# Altium schematic symbol library IC-I2C.SchLib: 21 symbols
Pins are listed as number, name and electrical type; pins without a type are passive.

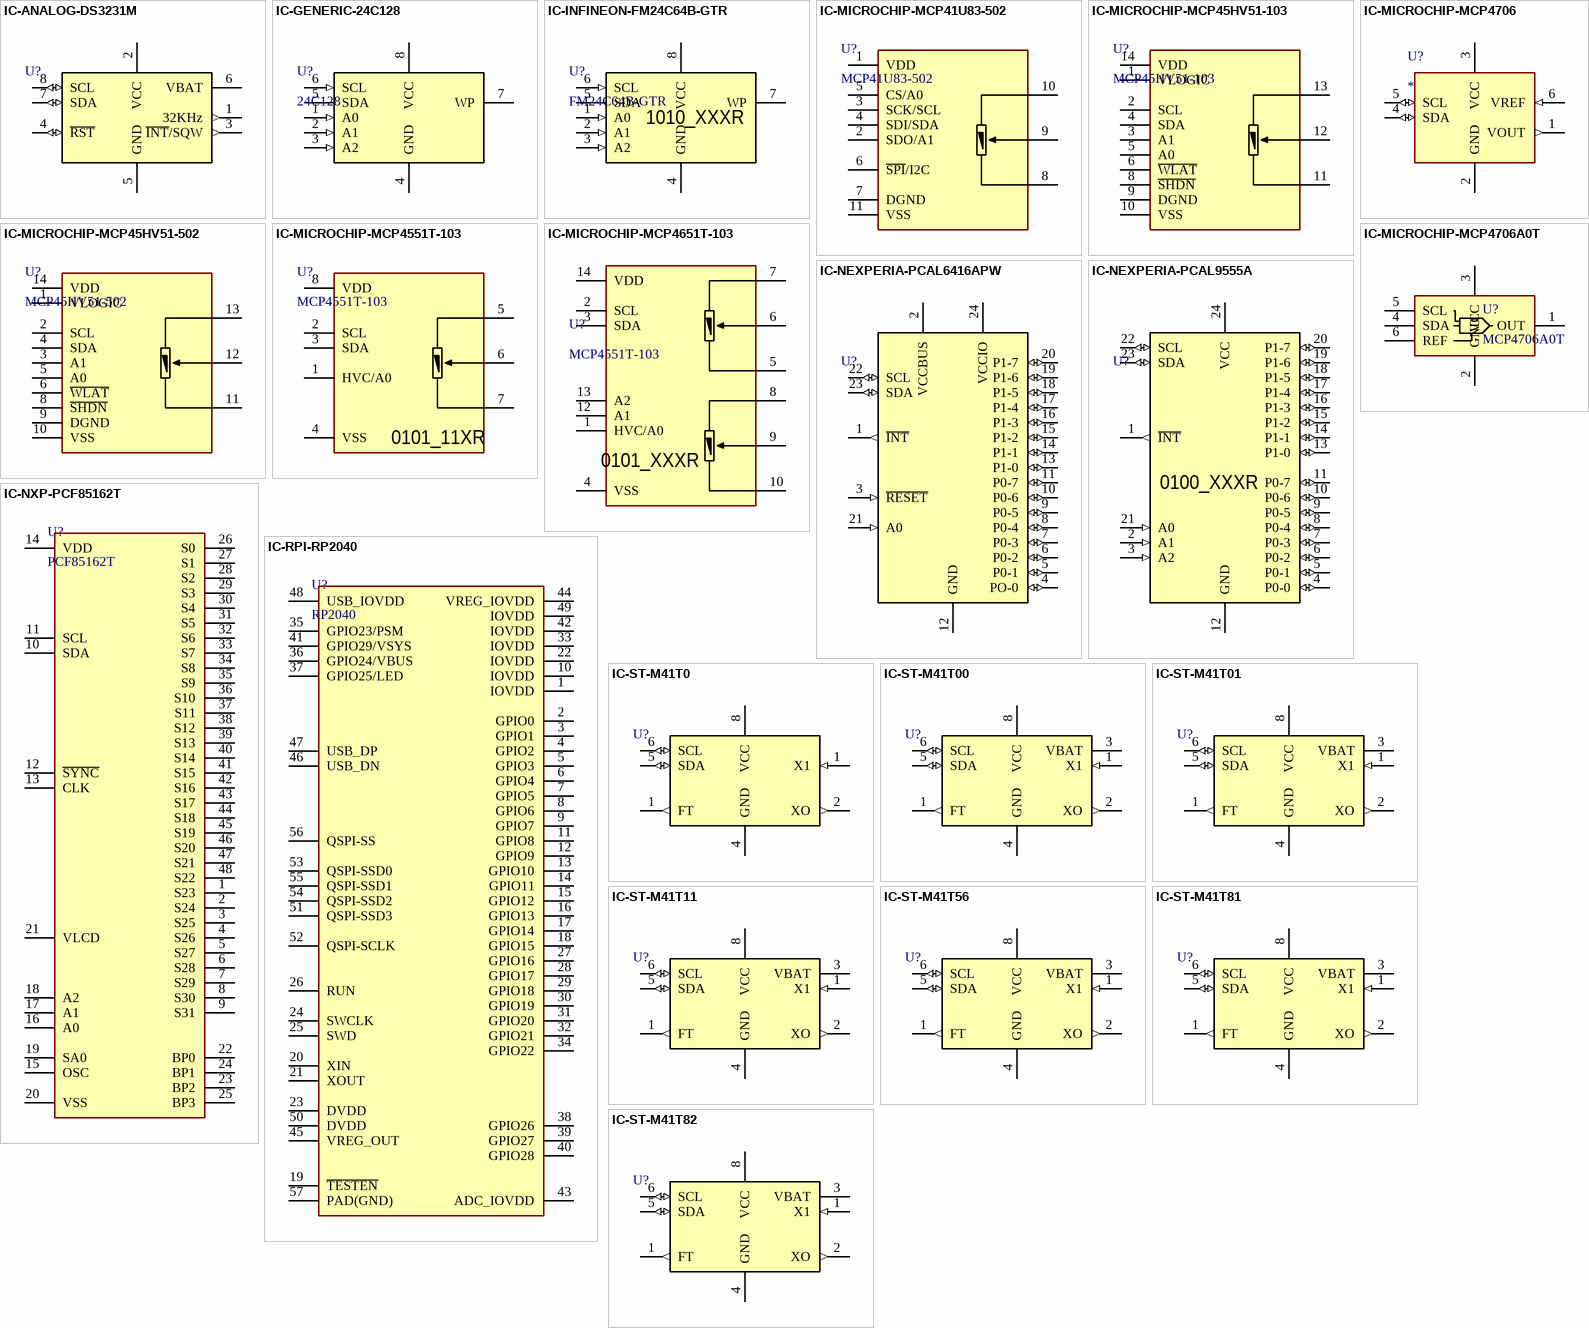
[diagram p0: symbols IC-ANALOG-DS3231M to IC-ST-M41T82]

## IC-ANALOG-DS3231M
designator U?  (value not drawn)
IC,I2C,RTC,DS3231M; Supplier 1: Mouser; Supplier Part Number 1: 700-DS3231MZ+TRL; LCSC: C107410
footprint SO127P600-8N (SO8)
pins: 1 32KHz (out), 2 VCC, 3 ~{INT}/SQW (out), 4 ~{RST} (io), 5 GND (power), 6 VBAT, 7 SDA (io), 8 SCL (io)

## IC-GENERIC-24C128
designator U?, comment 24C128
IC,I2C,EEPROM,128KBIT; Supplier 1: Arrow Electronics; Supplier Part Number 1: AT24C128C-SSHM-T; LCSC: C6478
footprint SO127P600-8N (SO8)
pins: 1 A0 (in), 2 A1 (in), 3 A2 (in), 4 GND (power), 5 SDA (oc), 6 SCL (in), 7 WP, 8 VCC

## IC-INFINEON-FM24C64B-GTR
designator U?, comment FM24C64B-GTR
IC,I2C,FRAM,64KBIT; LCSC: C914923; Supplier 1: Arrow Electronics; Supplier Part Number 1: FM24C64B-GTR
footprint SO127P600-8N (SO8)
pins: 1 A0 (in), 2 A1 (in), 3 A2 (in), 4 GND (power), 5 SDA (oc), 6 SCL (in), 7 WP, 8 VCC
text: 1010_XXXR

## IC-MICROCHIP-MCP41U83-502
designator U?, comment MCP41U83-502
IC,I2C,DIGITAL POTMETER,1024STEP,5K,MICROCHIP,MCP41U83-502
pins: 1 VDD, 2 SDO/A1, 3 SCK/SCL, 4 SDI/SDA, 5 CS/A0, 6 ~{SPI}/I2C, 7 DGND, 8 POB, 9 OW, 10 POA, 11 VSS

## IC-MICROCHIP-MCP45HV51-103
designator U?, comment MCP45HV51-103
IC,I2C,DIGITAL POTMETER,256STEP,10K,MICROCHIP,MCP45HV51-103
pins: 1 VLOGIC, 2 SCL, 3 A1, 4 SDA, 5 A0, 6 ~{WLAT}, 8 ~{SHDN}, 9 DGND, 10 VSS, 11 POB, 12 OW, 13 POA, 14 VDD

## IC-MICROCHIP-MCP45HV51-502
designator U?, comment MCP45HV51-502
IC,I2C,DIGITAL POTMETER,256STEP,5K,MICROCHIP,MCP45HV51-502
pins: 1 VLOGIC, 2 SCL, 3 A1, 4 SDA, 5 A0, 6 ~{WLAT}, 8 ~{SHDN}, 9 DGND, 10 VSS, 11 POB, 12 OW, 13 POA, 14 VDD

## IC-MICROCHIP-MCP4551T-103
designator U?, comment MCP4551T-103
IC,I2C,DIGITAL POTMETER,257STEP,10K,MICROCHIP,MCP4551T-103; Manufacturer Part Number 1: MCP4551T-103E/MS; LCSC: C627285; DIGIKEY: MCP4551T-103E/MSCT-ND; Manufacturer 1: MICROCHIP
footprint SO65P490-8N (MSOP8, 0.65MM PITCH, 4.90MM SPAN, 1.15MM HEIGHT)
pins: 1 HVC/A0, 2 SCL, 3 SDA, 4 VSS, 5 POA, 6 OW, 7 POB, 8 VDD
text: 0101_11XR

## IC-MICROCHIP-MCP4651T-103
designator U?, comment MCP4551T-103
IC,I2C,DIGITAL POTMETER,257STEP,10K,MICROCHIP,MCP4551T-103; Manufacturer Part Number 1: MCP4551T-103E/MS; LCSC: C627285; Manufacturer 1: MICROCHIP
pins: 1 HVC/A0, 2 SCL, 3 SDA, 4 VSS, 5 POA, 6 OW, 7 POB, 8 POA, 9 OW, 10 POB, 12 A1, 13 A2, 14 VDD
text: 0101_XXXR

## IC-MICROCHIP-MCP4706
designator U?
IC,I2C,DAC
pins: 1 VOUT (out), 2 GND, 3 VCC, 4 SDA (io), 5 SCL (io), 6 VREF (in)

## IC-MICROCHIP-MCP4706A0T
designator U?, comment MCP4706A0T
IC,I2C,DAC,8BIT; Manufacturer 1: MICROCHIP; Manufacturer Part Number 1: MCP4706A0T-E/CH; LCSC: C2649360
footprint sot23-6 (SOT23 PACKAGE, 6 PIN (SOT26))
pins: 1 OUT, 2 GND, 3 VCC, 4 SDA, 5 SCL, 6 REF

## IC-NEXPERIA-PCAL6416APW
designator U?, comment PCAL6416APW  (value not drawn)
IC,I2C,16BIT AGILE, LEVEL SHIFTING I/O EXPANDER; Supplier 1: Arrow Electronics; Supplier Part Number 1: PCAL6416APW,118
pins: 1 ~{INT} (out), 2 VCCBUS (power), 3 ~{RESET} (in), 4 PO-0 (io), 5 P0-1 (io), 6 P0-2 (io), 7 P0-3 (io), 8 P0-4 (io), 9 P0-5 (io), 10 P0-6 (io), 11 P0-7 (io), 12 GND (power), 13 P1-0 (io), 14 P1-1 (io), 15 P1-2 (io), 16 P1-3 (io), 17 P1-4 (io), 18 P1-5 (io), 19 P1-6 (io), 20 P1-7 (io), 21 A0 (in), 22 SCL (io), 23 SDA (io), 24 VCCIO (power)

## IC-NEXPERIA-PCAL9555A
designator U?, comment PCAL9555  (value not drawn)
IC,I2C,16BIT AGILE I/O EXPANDER,INT,NEXPERIA,PCAL95555,TSSOP24; Manufacturer Part Number 1: PCAL9555APW,118; DIGIKEY: 568-9928-1-ND; LCSC: C2669740; Manufacturer 1: NEXPERIA
footprint SO65P640X120-24N (TSSOP24 , 6.4MM TTT  0.65MM PITCH)
pins: 1 ~{INT} (out), 2 A1 (in), 3 A2 (in), 4 P0-0 (io), 5 P0-1 (io), 6 P0-2 (io), 7 P0-3 (io), 8 P0-4 (io), 9 P0-5 (io), 10 P0-6 (io), 11 P0-7 (io), 12 GND (power), 13 P1-0 (io), 14 P1-1 (io), 15 P1-2 (io), 16 P1-3 (io), 17 P1-4 (io), 18 P1-5 (io), 19 P1-6 (io), 20 P1-7 (io), 21 A0 (in), 22 SCL (io), 23 SDA (io), 24 VCC (power)
text: 0100_XXXR

## IC-NXP-PCF85162T
designator U?, comment PCF85162T
IC,I2C,32X4 UNIVERSAL LCD DRIVER
pins: 1 S23, 2 S24, 3 S25, 4 S26, 5 S27, 6 S28, 7 S29, 8 S30, 9 S31, 10 SDA, 11 SCL, 12 ~{SYNC}, 13 CLK, 14 VDD, 15 OSC, 16 A0, 17 A1, 18 A2, 19 SA0, 20 VSS, 21 VLCD, 22 BP0, 23 BP2, 24 BP1, 25 BP3, 26 S0, 27 S1, 28 S2, 29 S3, 30 S4, 31 S5, 32 S6, 33 S7, 34 S8, 35 S9, 36 S10, 37 S11, 38 S12, 39 S13, 40 S14, 41 S15, 42 S16, 43 S17, 44 S18, 45 S19, 46 S20, 47 S21, 48 S22

## IC-RPI-RP2040
designator U?, comment RP2040
pins: 1 IOVDD, 2 GPIO0, 3 GPIO1, 4 GPIO2, 5 GPIO3, 6 GPIO4, 7 GPIO5, 8 GPIO6, 9 GPIO7, 10 IOVDD, 11 GPIO8, 12 GPIO9, 13 GPIO10, 14 GPIO11, 15 GPIO12, 16 GPIO13, 17 GPIO14, 18 GPIO15, 19 ~{TESTEN}, 20 XIN, 21 XOUT, 22 IOVDD, 23 DVDD, 24 SWCLK, 25 SWD, 26 RUN, 27 GPIO16, 28 GPIO17, 29 GPIO18, 30 GPIO19, 31 GPIO20, 32 GPIO21, 33 IOVDD, 34 GPIO22, 35 GPIO23/PSM, 36 GPIO24/VBUS, 37 GPIO25/LED, 38 GPIO26, 39 GPIO27, 40 GPIO28, 41 GPIO29/VSYS, 42 IOVDD, 43 ADC_IOVDD, 44 VREG_IOVDD, 45 VREG_OUT, 46 USB_DN, 47 USB_DP, 48 USB_IOVDD, 49 IOVDD, 50 DVDD, 51 QSPI-SSD3, 52 QSPI-SCLK, 53 QSPI-SSD0, 54 QSPI-SSD2, 55 QSPI-SSD1, 56 QSPI-SS, 57 PAD(GND)

## IC-ST-M41T0
designator U?, comment M41T0  (value not drawn)
IC,I2C,RTC, 1101000  SMHDDMY; Supplier 1: Arrow Electronics; Supplier Part Number 1: PCAL6416APW,118
footprint SO127P600-8N (SO8)
pins: 1 FT (out), 1 X1 (in), 2 XO (out), 4 GND (power), 5 SDA (io), 6 SCL (io), 8 VCC

## IC-ST-M41T00
designator U?, comment M41T00  (value not drawn)
IC,I2C,RTC+VBAT, 1101000  SMHDDMY
footprint SO127P600-8N (SO8)
pins: 1 FT (out), 1 X1 (in), 2 XO (out), 3 VBAT, 4 GND (power), 5 SDA (io), 6 SCL (io), 8 VCC

## IC-ST-M41T01
designator U?, comment M41T01  (value not drawn)
IC,I2C,RTC+VBAT, 1101000  SMHDDMY
footprint SO127P600-8N (SO8)
pins: 1 FT (out), 1 X1 (in), 2 XO (out), 3 VBAT, 4 GND (power), 5 SDA (io), 6 SCL (io), 8 VCC

## IC-ST-M41T11
designator U?, comment M41T11  (value not drawn)
IC,I2C,RTC+RAM+VBAT,I2C 1101000,  SMHDDMY; Supplier 1: Arrow Electronics; Supplier Part Number 1: M41T11M6F; LCSC: C907713
footprint SO127P600-8N (SO8)
pins: 1 FT (out), 1 X1 (in), 2 XO (out), 3 VBAT, 4 GND (power), 5 SDA (io), 6 SCL (io), 8 VCC

## IC-ST-M41T56
designator U?, comment M41T56  (value not drawn)
IC,I2C,RTC+RAM+VBAT, 1101000  SMHDDMY
footprint SO127P600-8N (SO8)
pins: 1 FT (out), 1 X1 (in), 2 XO (out), 3 VBAT, 4 GND (power), 5 SDA (io), 6 SCL (io), 8 VCC

## IC-ST-M41T81
designator U?, comment M41T81  (value not drawn)
IC,I2C,RTC+VBAT, 1101000  SMHDDMY
footprint SO127P600-8N (SO8)
pins: 1 FT (out), 1 X1 (in), 2 XO (out), 3 VBAT, 4 GND (power), 5 SDA (io), 6 SCL (io), 8 VCC

## IC-ST-M41T82
designator U?, comment M41T82  (value not drawn)
IC,I2C,RTC+RAM+VBAT, 1101000  SMHDDMY
footprint SO127P600-8N (SO8)
pins: 1 FT (out), 1 X1 (in), 2 XO (out), 3 VBAT, 4 GND (power), 5 SDA (io), 6 SCL (io), 8 VCC